# Altium footprint library wurth_dc_jack_694106402002.PcbLib: 1 footprints
Each footprint in its own frame and in the unit in brackets; x right, y up, seen from the top. Pads: shape width x height; smd on the part's side, far side on the other; paste and mask are expansions set on the pad; w line width, h text height; cw(c..) or ccw(c..) is an arc to the next point about the centre after c.
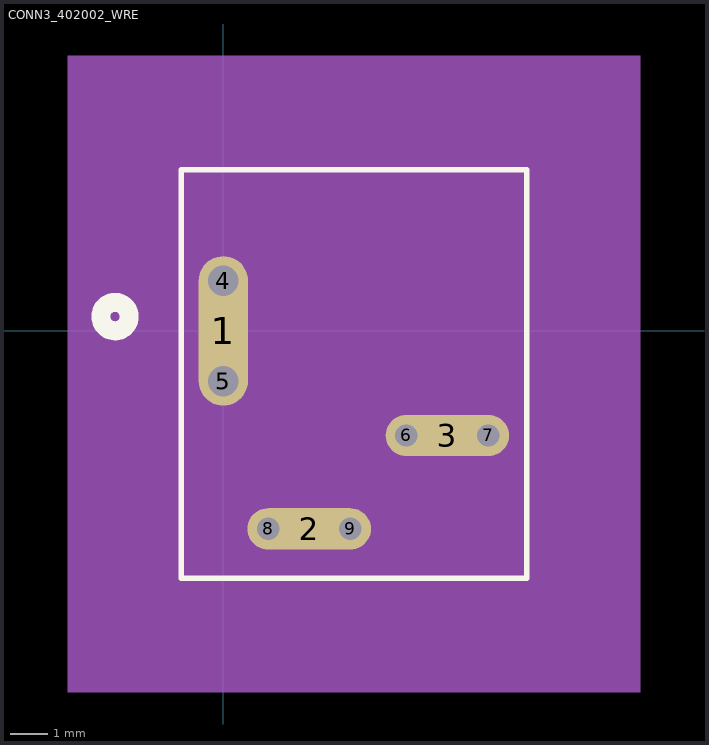
[diagram p0: the footprint, top view; thin cyan lines are the x and y axes]

## CONN3_402002_WRE [mm]
pads (9):
  oval 1.321x4.008 hole 0.025 mask+0: 1(0,0)
  oval 3.308x1.108 hole 0.025 mask+0: 2(2.3,-5.3) 3(6,-2.8)
  round 0.813 hole 0.813 unplated: 4(0,1.344) 5(0,-1.344)
  round 0.6 hole 0.6 unplated: 6(4.9,-2.8) 7(7.1,-2.8) 8(1.2,-5.3) 9(3.4,-5.3)
Top Overlay:
  circle w0.508: c-2.901,0.383 r0.381
  lines w0.152: -1.123,-6.627 8.123,-6.627 8.123,4.32 -1.123,4.32 -1.123,-6.627
Bottom Overlay:
  circle w0.508: c-2.901,0.383 r0.381
Mechanical 5:
  region: -4.171,7.368 11.171,7.368 11.171,-9.675 -4.171,-9.675
Mechanical 13:
  circle w0.508: c3.5,2.288 r0.381
  lines w0.025: -0.996,-6.5 7.996,-6.5 7.996,4.193 -0.996,4.193 -0.996,-6.5
Mechanical 15:
  region: 8.25,4.447 -1.25,4.447 -1.25,-6.754 8.25,-6.754
  lines w0.152: -1.25,-6.754 -1.25,4.447 8.25,4.447 8.25,-6.754 -1.25,-6.754
Multi-Layer:
  lines w0.6: 1.2,-5.3 3.4,-5.3 ; 4.9,-2.8 7.1,-2.8
  lines w0.813: 0,-1.344 0,1.344
3D body: height 0.25, standoff 0, extent 0,0 0.254,0.254